# Altium schematic symbol library IND 15UH 4.5A 34 MOHM.Schlib: 1 symbol
Pins are listed as number, name and electrical type; pins without a type are passive.

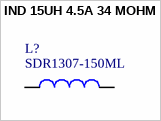
[diagram p0: symbol IND 15UH 4.5A 34 MOHM]

## IND 15UH 4.5A 34 MOHM
designator L?, comment SDR1307-150ML
15µH Unshielded Wirewound Inductor 4.5A 34mOhm Max Nonstandard
pins: 1, 2